# EAGLE library part DA14531MOD (library SparkFun_Thing_Plus_RA6M5)
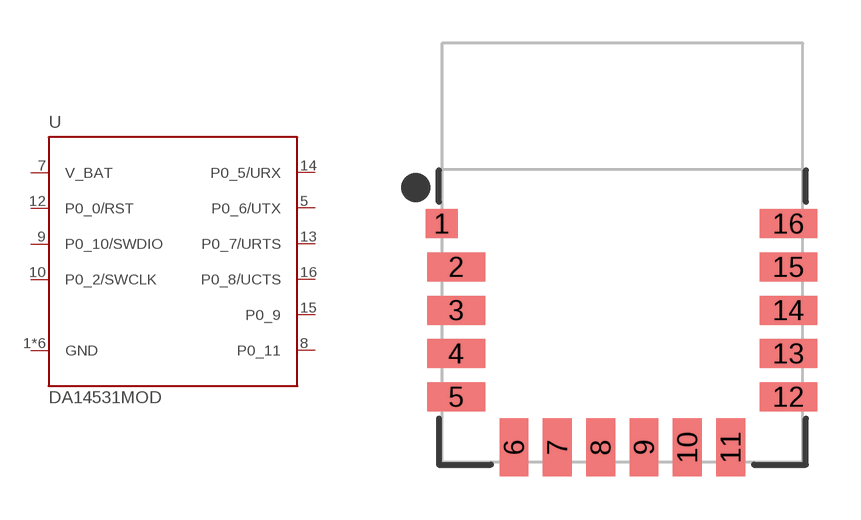
[diagram p1: symbol with the pads of DA14531MOD; footprint DA14531MOD]

Designator prefix U

## DA14531MOD (PROD_ID: IC-20782; VALUE: DA14531MOD)  [DA14531MOD]
1  GND
2  GND
3  GND
4  GND
5  P0_6/UTX
6  GND
7  V_BAT
8  P0_11
9  P0_10/SWDIO
10  P0_2/SWCLK
11  GND
12  P0_0/RST
13  P0_7/URTS
14  P0_5/URX
15  P0_9
16  P0_8/UCTS

## Footprint DA14531MOD (pad centres in mm)
smd 1.1 x 1: 1 -6.25,1
smd 2 x 1: 2 -5.75,-0.5; 3 -5.75,-2; 4 -5.75,-3.5; 5 -5.75,-5; 12 5.75,-5; 13 5.75,-3.5; 14 5.75,-2; 15 5.75,-0.5; 16 5.75,1
smd 1 x 2: 6 -3.75,-6.75; 7 -2.25,-6.75; 8 -0.75,-6.75; 9 0.75,-6.75; 10 2.25,-6.75; 11 3.75,-6.75